# Altium footprint library FYLS-1204UWC.PcbLib: 1 footprints
Each footprint in its own frame and in the unit in brackets; x right, y up, seen from the top. Pads: shape width x height; smd on the part's side, far side on the other; paste and mask are expansions set on the pad; w line width, h text height; cw(c..) or ccw(c..) is an arc to the next point about the centre after c.
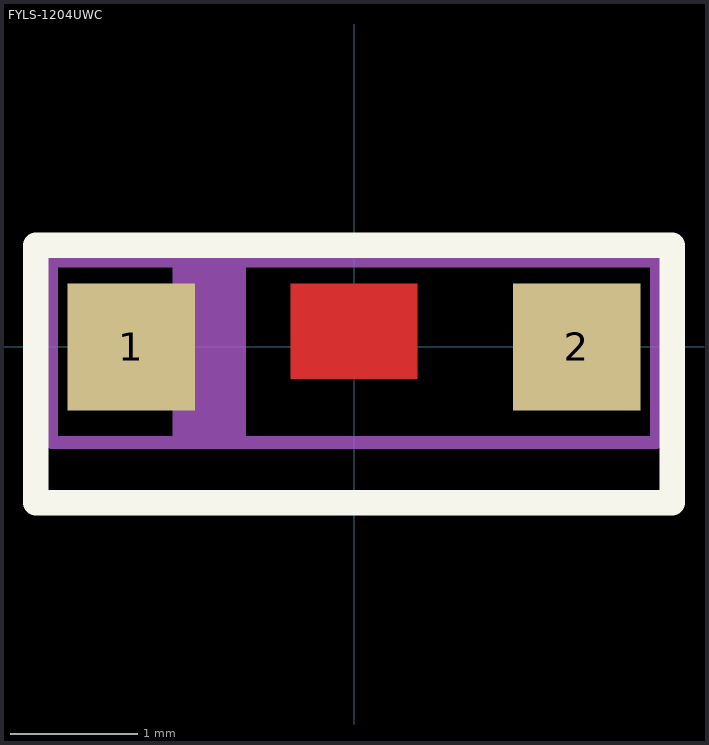
[diagram p0: the footprint, top view; thin cyan lines are the x and y axes]

## FYLS-1204UWC [mm]
height 0.9
pads (2):
  rect 1x1 smd: 1(-1.75,0) 2(1.75,0)
Top Layer:
  rectangle: -0.5,-0.25 0.5,0.5
Top Overlay:
  lines w0.2: -2.5,-1.225 2.5,-1.225 2.5,0.8 -2.5,0.8 -2.5,-1.225
Top Solder:
  rectangle: -0.6,-0.35 0.6,0.6
Top Assembly:
  rectangle: -1.425,-0.7 -0.85,0.675
  lines w0.1: -2.375,-0.75 2.375,-0.75 2.375,0.675 -2.375,0.675 -2.375,-0.75
  text "'.Designator'" at -0.7,-0.325 h0.7
3D body "FYLS-1204UWC.stp": height 1, standoff 0, extent -1.6,-1.225 1.6,0.275